# Altium footprint library ADP715x.PcbLib: 1 footprints
Each footprint in its own frame and in the unit in brackets; x right, y up, seen from the top. Pads: shape width x height; smd on the part's side, far side on the other; paste and mask are expansions set on the pad; w line width, h text height; cw(c..) or ccw(c..) is an arc to the next point about the centre after c.
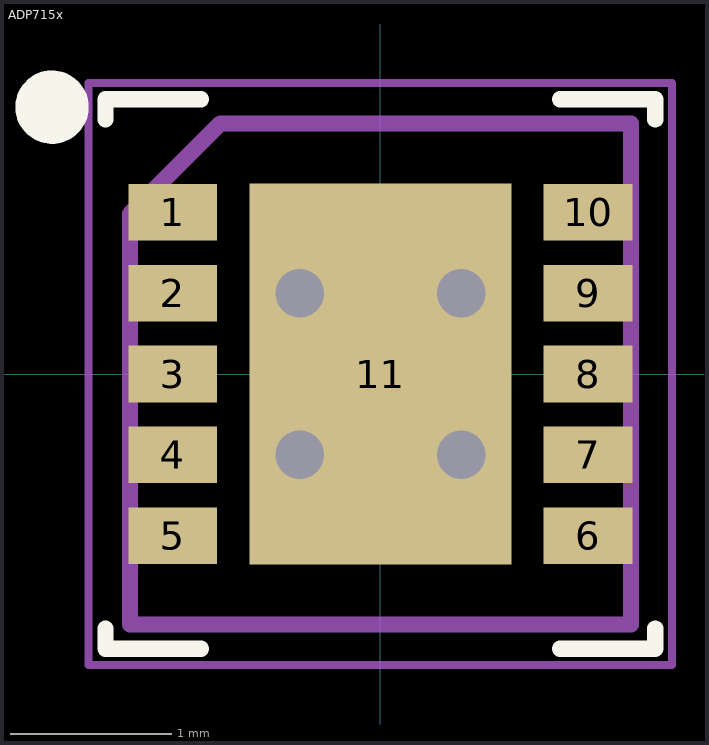
[diagram p0: the footprint, top view; thin cyan lines are the x and y axes]

## ADP715x [mm] "PSON, 10-Leads, Body 3.00x3.00mm, Pitch 0.50mm, Thermal Pad 2.36x1.62mm, IPC Medium Density"
height 0.8
pads (11):
  rect 0.55x0.35 smd: 1(-1.285,1) 2(-1.285,0.5) 3(-1.285,0) 4(-1.285,-0.5) 5(-1.285,-1) 6(1.285,-1) 7(1.285,-0.5) 8(1.285,0) 9(1.285,0.5) 10(1.285,1)
  rect 1.62x2.36 smd: 11(0,0)
via -0.5,0.5 diameter 0.45 hole 0.3
via 0.5,0.5 diameter 0.45 hole 0.3
via -0.5,-0.5 diameter 0.45 hole 0.3
via 0.5,-0.5 diameter 0.45 hole 0.3
Top Overlay:
  circle w0.254: c-2.032,1.651 r0.1
  lines w0.1: -1.7,-1.575 -1.7,-1.7 -1.11,-1.7 ; -1.7,1.575 -1.7,1.7 -1.11,1.7 ; 1.11,-1.7 1.7,-1.7 1.7,-1.575 ; 1.11,1.7 1.7,1.7 1.7,1.575
Mechanical 1:
  lines w0.1: -1.55,-1.55 -1.55,0.99 -0.99,1.55 1.55,1.55 1.55,-1.55 -1.55,-1.55
  text ".Designator" at -3.304,-0.293 h0.65
Mechanical 2:
  lines w0.05: -1.805,-1.8 -1.805,1.8 1.805,1.8 1.805,-1.8 -1.805,-1.8
  lines w0.1: -0.5,0 0.5,0 ; 0,-0.5 0,0.5
3D body "ADP715x.step": height 0.8, standoff 0, extent -1.551,-1.55 1.551,1.55